# Altium integrated library Motorola Microprocessor 8-Bit.IntLib: 126 symbols (part 3 of 3)
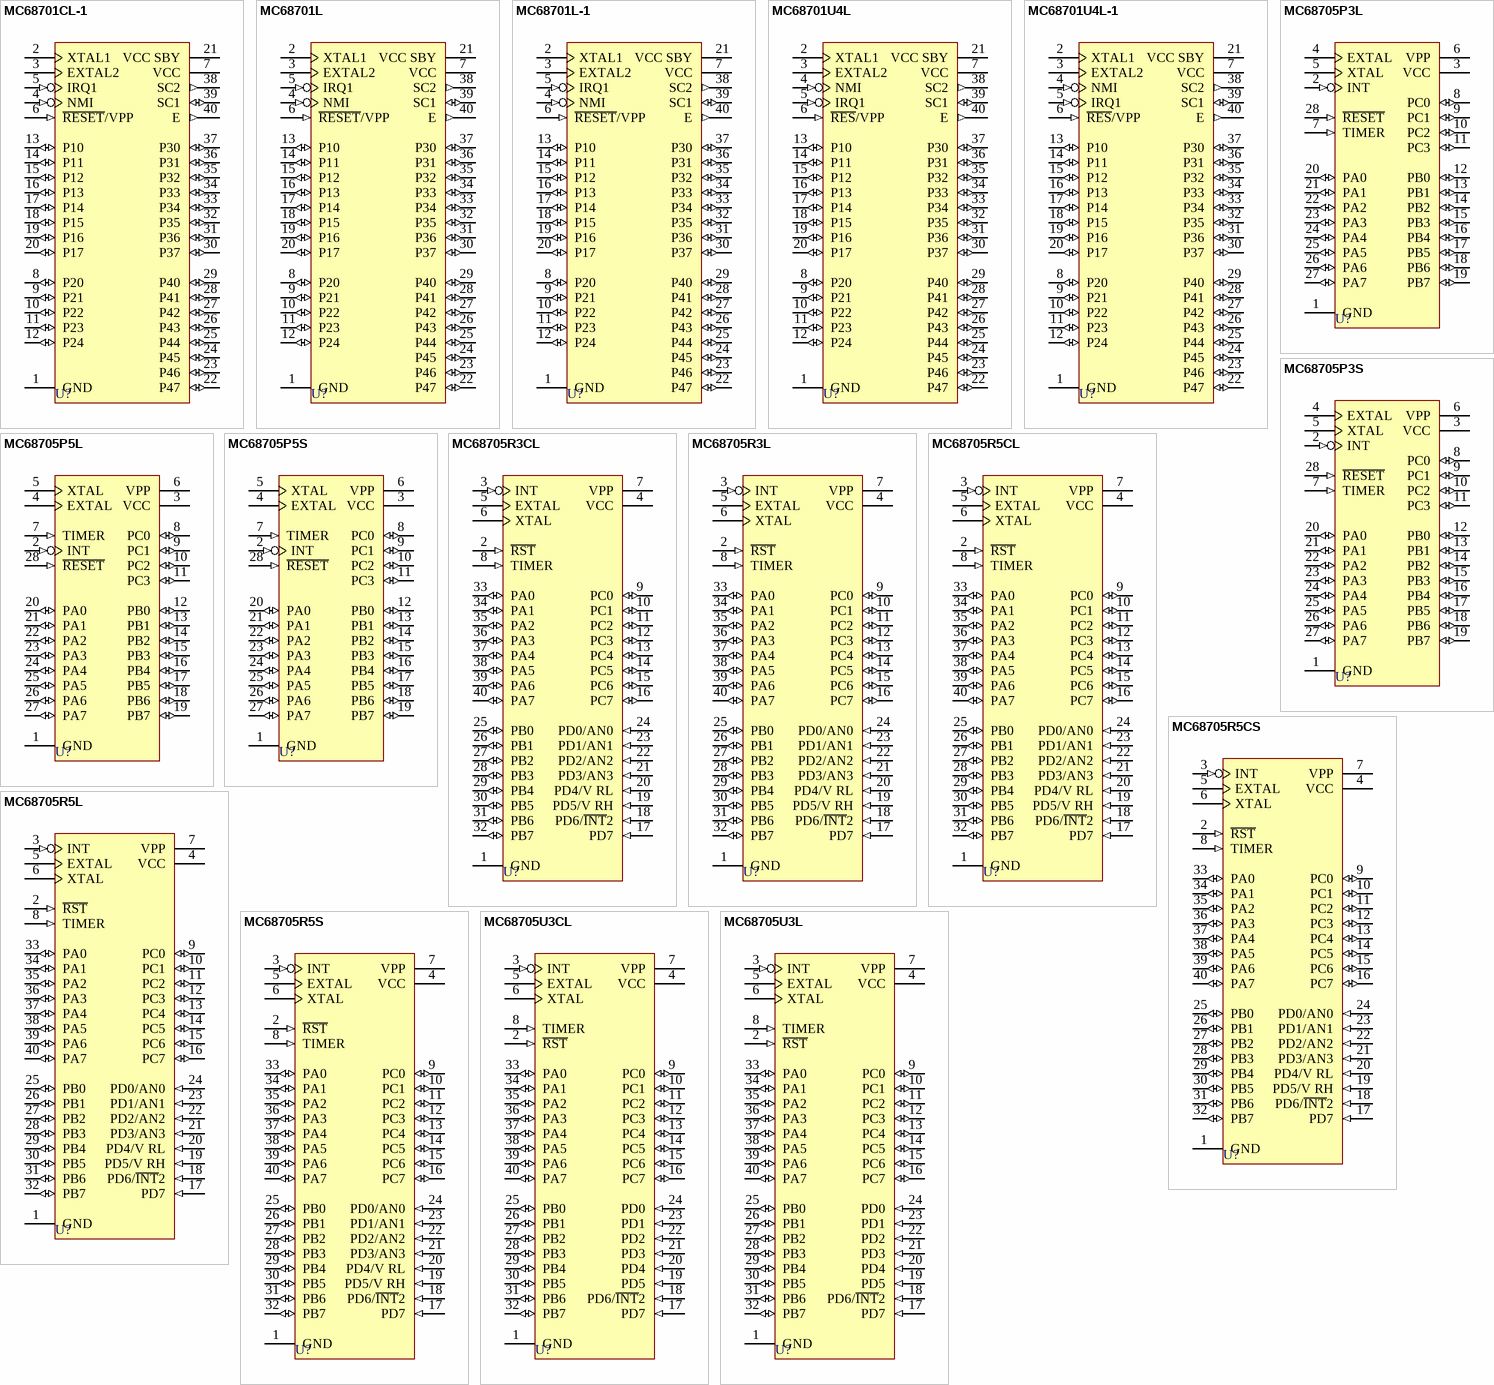
[diagram p8: symbols MC68701CL-1 to MC68705U3L]

## MC68705R5CL
designator U?
8-Bit EPROM Microcomputer; Published: 17-Jul-2002; LatestRevisionDate: 06-Jun-2005; LatestRevisionNote: Stylized 3D Model Added.; DatasheetVersion: 1984; PackageReference: 715-05; Publisher: Altium Limited; PackageDescription: DIP; 40 Leads; Row Spacing 15.24 mm; Pitch 2.54 mm
footprint 715-05 (DIP; 40 Leads; Row Spacing 15.24 mm; Pitch 2.54 mm)
3D model 715-05 (DIP; 40 Leads; Row Spacing 15.24 mm; Pitch 2.54 mm)
pins: 1 GND (power), 2 ~{RST} (in), 3 INT (in), 4 VCC (power), 5 EXTAL, 6 XTAL, 7 VPP (power), 8 TIMER (in), 9 PC0 (io), 10 PC1 (io), 11 PC2 (io), 12 PC3 (io), 13 PC4 (io), 14 PC5 (io), 15 PC6 (io), 16 PC7 (io), 17 PD7 (in), 18 PD6/~{INT}2 (in), 19 PD5/V RH (in), 20 PD4/V RL (in), 21 PD3/AN3 (in), 22 PD2/AN2 (in), 23 PD1/AN1 (in), 24 PD0/AN0 (in), 25 PB0 (io), 26 PB1 (io), 27 PB2 (io), 28 PB3 (io), 29 PB4 (io), 30 PB5 (io), 31 PB6 (io), 32 PB7 (io), 33 PA0 (io), 34 PA1 (io), 35 PA2 (io), 36 PA3 (io), 37 PA4 (io), 38 PA5 (io), 39 PA6 (io), 40 PA7 (io)

## MC68705R5CS
designator U?
8-Bit EPROM Microcomputer; Published: 17-Jul-2002; LatestRevisionDate: 06-Jun-2005; LatestRevisionNote: Stylized 3D Model Added.; DatasheetVersion: 1984; PackageReference: 734-04; Publisher: Altium Limited; PackageDescription: DIP; 40 Leads; Row Spacing 15.24 mm; Pitch 2.54 mm; Code_JEDEC: MS-011-AC
footprint 734-04 (DIP; 40 Leads; Row Spacing 15.24 mm; Pitch 2.54 mm)
3D model 734-04 (DIP; 40 Leads; Row Spacing 15.24 mm; Pitch 2.54 mm)
pins: 1 GND (power), 2 ~{RST} (in), 3 INT (in), 4 VCC (power), 5 EXTAL, 6 XTAL, 7 VPP (power), 8 TIMER (in), 9 PC0 (io), 10 PC1 (io), 11 PC2 (io), 12 PC3 (io), 13 PC4 (io), 14 PC5 (io), 15 PC6 (io), 16 PC7 (io), 17 PD7 (in), 18 PD6/~{INT}2 (in), 19 PD5/V RH (in), 20 PD4/V RL (in), 21 PD3/AN3 (in), 22 PD2/AN2 (in), 23 PD1/AN1 (in), 24 PD0/AN0 (in), 25 PB0 (io), 26 PB1 (io), 27 PB2 (io), 28 PB3 (io), 29 PB4 (io), 30 PB5 (io), 31 PB6 (io), 32 PB7 (io), 33 PA0 (io), 34 PA1 (io), 35 PA2 (io), 36 PA3 (io), 37 PA4 (io), 38 PA5 (io), 39 PA6 (io), 40 PA7 (io)

## MC68705R5L
designator U?
8-Bit EPROM Microcomputer; Published: 17-Jul-2002; LatestRevisionDate: 06-Jun-2005; LatestRevisionNote: Stylized 3D Model Added.; DatasheetVersion: 1984; PackageReference: 715-05; Publisher: Altium Limited; PackageDescription: DIP; 40 Leads; Row Spacing 15.24 mm; Pitch 2.54 mm
footprint 715-05 (DIP; 40 Leads; Row Spacing 15.24 mm; Pitch 2.54 mm)
3D model 715-05 (DIP; 40 Leads; Row Spacing 15.24 mm; Pitch 2.54 mm)
pins: 1 GND (power), 2 ~{RST} (in), 3 INT (in), 4 VCC (power), 5 EXTAL, 6 XTAL, 7 VPP (power), 8 TIMER (in), 9 PC0 (io), 10 PC1 (io), 11 PC2 (io), 12 PC3 (io), 13 PC4 (io), 14 PC5 (io), 15 PC6 (io), 16 PC7 (io), 17 PD7 (in), 18 PD6/~{INT}2 (in), 19 PD5/V RH (in), 20 PD4/V RL (in), 21 PD3/AN3 (in), 22 PD2/AN2 (in), 23 PD1/AN1 (in), 24 PD0/AN0 (in), 25 PB0 (io), 26 PB1 (io), 27 PB2 (io), 28 PB3 (io), 29 PB4 (io), 30 PB5 (io), 31 PB6 (io), 32 PB7 (io), 33 PA0 (io), 34 PA1 (io), 35 PA2 (io), 36 PA3 (io), 37 PA4 (io), 38 PA5 (io), 39 PA6 (io), 40 PA7 (io)

## MC68705R5S
designator U?
8-Bit EPROM Microcomputer; Published: 17-Jul-2002; LatestRevisionDate: 06-Jun-2005; LatestRevisionNote: Stylized 3D Model Added.; DatasheetVersion: 1984; PackageReference: 734-04; Publisher: Altium Limited; PackageDescription: DIP; 40 Leads; Row Spacing 15.24 mm; Pitch 2.54 mm; Code_JEDEC: MS-011-AC
footprint 734-04 (DIP; 40 Leads; Row Spacing 15.24 mm; Pitch 2.54 mm)
3D model 734-04 (DIP; 40 Leads; Row Spacing 15.24 mm; Pitch 2.54 mm)
pins: 1 GND (power), 2 ~{RST} (in), 3 INT (in), 4 VCC (power), 5 EXTAL, 6 XTAL, 7 VPP (power), 8 TIMER (in), 9 PC0 (io), 10 PC1 (io), 11 PC2 (io), 12 PC3 (io), 13 PC4 (io), 14 PC5 (io), 15 PC6 (io), 16 PC7 (io), 17 PD7 (in), 18 PD6/~{INT}2 (in), 19 PD5/V RH (in), 20 PD4/V RL (in), 21 PD3/AN3 (in), 22 PD2/AN2 (in), 23 PD1/AN1 (in), 24 PD0/AN0 (in), 25 PB0 (io), 26 PB1 (io), 27 PB2 (io), 28 PB3 (io), 29 PB4 (io), 30 PB5 (io), 31 PB6 (io), 32 PB7 (io), 33 PA0 (io), 34 PA1 (io), 35 PA2 (io), 36 PA3 (io), 37 PA4 (io), 38 PA5 (io), 39 PA6 (io), 40 PA7 (io)

## MC68705U3CL
designator U?
8-Bit EPROM Microcomputer; Published: 17-Jul-2002; LatestRevisionDate: 06-Jun-2005; LatestRevisionNote: Stylized 3D Model Added.; DatasheetVersion: 1984; PackageReference: 715-05; Publisher: Altium Limited; PackageDescription: DIP; 40 Leads; Row Spacing 15.24 mm; Pitch 2.54 mm
footprint 715-05 (DIP; 40 Leads; Row Spacing 15.24 mm; Pitch 2.54 mm)
3D model 715-05 (DIP; 40 Leads; Row Spacing 15.24 mm; Pitch 2.54 mm)
pins: 1 GND (power), 2 ~{RST} (in), 3 INT (in), 4 VCC (power), 5 EXTAL, 6 XTAL, 7 VPP, 8 TIMER (in), 9 PC0 (io), 10 PC1 (io), 11 PC2 (io), 12 PC3 (io), 13 PC4 (io), 14 PC5 (io), 15 PC6 (io), 16 PC7 (io), 17 PD7 (in), 18 PD6/~{INT}2 (in), 19 PD5 (in), 20 PD4 (in), 21 PD3 (in), 22 PD2 (in), 23 PD1 (in), 24 PD0 (in), 25 PB0 (io), 26 PB1 (io), 27 PB2 (io), 28 PB3 (io), 29 PB4 (io), 30 PB5 (io), 31 PB6 (io), 32 PB7 (io), 33 PA0 (io), 34 PA1 (io), 35 PA2 (io), 36 PA3 (io), 37 PA4 (io), 38 PA5 (io), 39 PA6 (io), 40 PA7 (io)

## MC68705U3L
designator U?
8-Bit EPROM Microcomputer; Published: 17-Jul-2002; LatestRevisionDate: 06-Jun-2005; LatestRevisionNote: Stylized 3D Model Added.; DatasheetVersion: 1984; PackageReference: 715-05; Publisher: Altium Limited; PackageDescription: DIP; 40 Leads; Row Spacing 15.24 mm; Pitch 2.54 mm
footprint 715-05 (DIP; 40 Leads; Row Spacing 15.24 mm; Pitch 2.54 mm)
3D model 715-05 (DIP; 40 Leads; Row Spacing 15.24 mm; Pitch 2.54 mm)
pins: 1 GND (power), 2 ~{RST} (in), 3 INT (in), 4 VCC (power), 5 EXTAL, 6 XTAL, 7 VPP, 8 TIMER (in), 9 PC0 (io), 10 PC1 (io), 11 PC2 (io), 12 PC3 (io), 13 PC4 (io), 14 PC5 (io), 15 PC6 (io), 16 PC7 (io), 17 PD7 (in), 18 PD6/~{INT}2 (in), 19 PD5 (in), 20 PD4 (in), 21 PD3 (in), 22 PD2 (in), 23 PD1 (in), 24 PD0 (in), 25 PB0 (io), 26 PB1 (io), 27 PB2 (io), 28 PB3 (io), 29 PB4 (io), 30 PB5 (io), 31 PB6 (io), 32 PB7 (io), 33 PA0 (io), 34 PA1 (io), 35 PA2 (io), 36 PA3 (io), 37 PA4 (io), 38 PA5 (io), 39 PA6 (io), 40 PA7 (io)

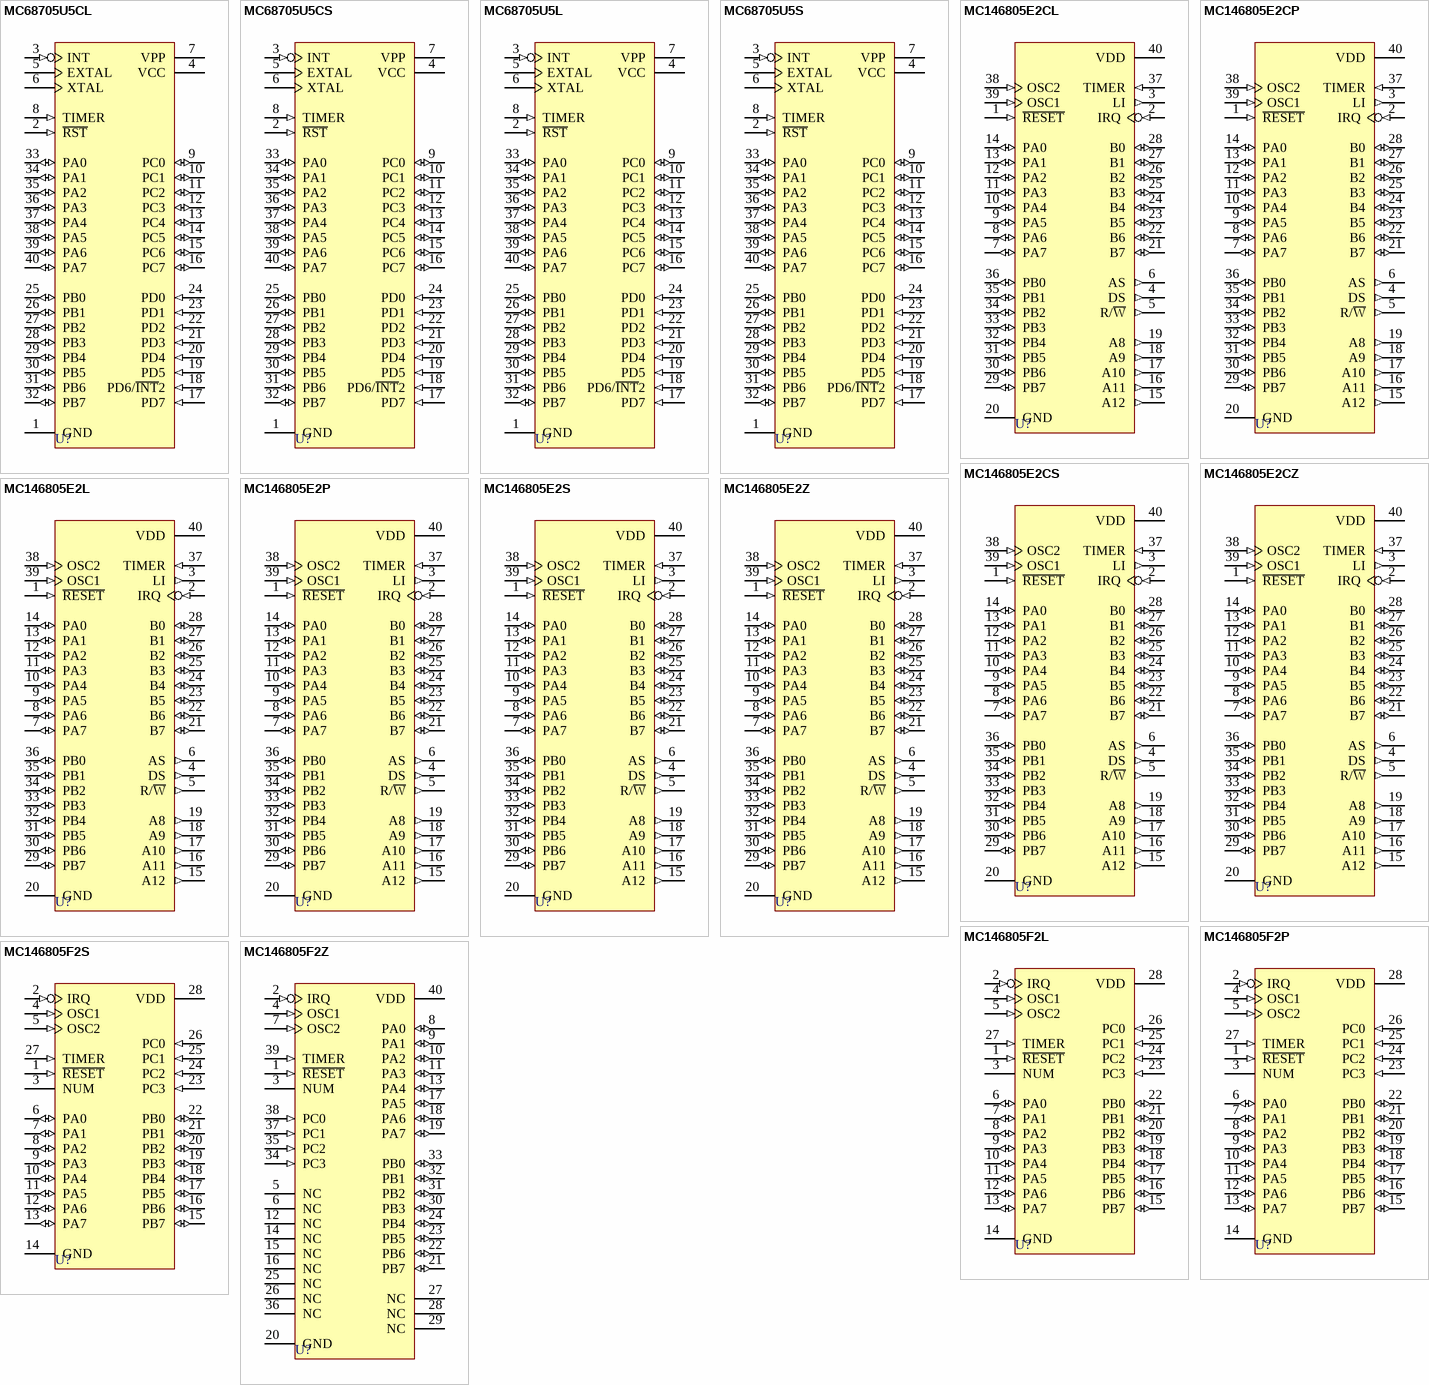
[diagram p6: symbols MC68705U5CL to MC146805F2Z]

## MC68705U5CL
designator U?
8-Bit EPROM Microcomputer; Published: 17-Jul-2002; LatestRevisionDate: 06-Jun-2005; LatestRevisionNote: Stylized 3D Model Added.; DatasheetVersion: 1984; PackageReference: 715-05; Publisher: Altium Limited; PackageDescription: DIP; 40 Leads; Row Spacing 15.24 mm; Pitch 2.54 mm
footprint 715-05 (DIP; 40 Leads; Row Spacing 15.24 mm; Pitch 2.54 mm)
3D model 715-05 (DIP; 40 Leads; Row Spacing 15.24 mm; Pitch 2.54 mm)
pins: 1 GND (power), 2 ~{RST} (in), 3 INT (in), 4 VCC (power), 5 EXTAL, 6 XTAL, 7 VPP, 8 TIMER (in), 9 PC0 (io), 10 PC1 (io), 11 PC2 (io), 12 PC3 (io), 13 PC4 (io), 14 PC5 (io), 15 PC6 (io), 16 PC7 (io), 17 PD7 (in), 18 PD6/~{INT}2 (in), 19 PD5 (in), 20 PD4 (in), 21 PD3 (in), 22 PD2 (in), 23 PD1 (in), 24 PD0 (in), 25 PB0 (io), 26 PB1 (io), 27 PB2 (io), 28 PB3 (io), 29 PB4 (io), 30 PB5 (io), 31 PB6 (io), 32 PB7 (io), 33 PA0 (io), 34 PA1 (io), 35 PA2 (io), 36 PA3 (io), 37 PA4 (io), 38 PA5 (io), 39 PA6 (io), 40 PA7 (io)

## MC68705U5CS
designator U?
8-Bit EPROM Microcomputer; Published: 17-Jul-2002; LatestRevisionDate: 06-Jun-2005; LatestRevisionNote: Stylized 3D Model Added.; DatasheetVersion: 1984; PackageReference: 734-04; Publisher: Altium Limited; PackageDescription: DIP; 40 Leads; Row Spacing 15.24 mm; Pitch 2.54 mm; Code_JEDEC: MS-011-AC
footprint 734-04 (DIP; 40 Leads; Row Spacing 15.24 mm; Pitch 2.54 mm)
3D model 734-04 (DIP; 40 Leads; Row Spacing 15.24 mm; Pitch 2.54 mm)
pins: 1 GND (power), 2 ~{RST} (in), 3 INT (in), 4 VCC (power), 5 EXTAL, 6 XTAL, 7 VPP, 8 TIMER (in), 9 PC0 (io), 10 PC1 (io), 11 PC2 (io), 12 PC3 (io), 13 PC4 (io), 14 PC5 (io), 15 PC6 (io), 16 PC7 (io), 17 PD7 (in), 18 PD6/~{INT}2 (in), 19 PD5 (in), 20 PD4 (in), 21 PD3 (in), 22 PD2 (in), 23 PD1 (in), 24 PD0 (in), 25 PB0 (io), 26 PB1 (io), 27 PB2 (io), 28 PB3 (io), 29 PB4 (io), 30 PB5 (io), 31 PB6 (io), 32 PB7 (io), 33 PA0 (io), 34 PA1 (io), 35 PA2 (io), 36 PA3 (io), 37 PA4 (io), 38 PA5 (io), 39 PA6 (io), 40 PA7 (io)

## MC68705U5L
designator U?
8-Bit EPROM Microcomputer; Published: 17-Jul-2002; LatestRevisionDate: 06-Jun-2005; LatestRevisionNote: Stylized 3D Model Added.; DatasheetVersion: 1984; PackageReference: 715-05; Publisher: Altium Limited; PackageDescription: DIP; 40 Leads; Row Spacing 15.24 mm; Pitch 2.54 mm
footprint 715-05 (DIP; 40 Leads; Row Spacing 15.24 mm; Pitch 2.54 mm)
3D model 715-05 (DIP; 40 Leads; Row Spacing 15.24 mm; Pitch 2.54 mm)
pins: 1 GND (power), 2 ~{RST} (in), 3 INT (in), 4 VCC (power), 5 EXTAL, 6 XTAL, 7 VPP, 8 TIMER (in), 9 PC0 (io), 10 PC1 (io), 11 PC2 (io), 12 PC3 (io), 13 PC4 (io), 14 PC5 (io), 15 PC6 (io), 16 PC7 (io), 17 PD7 (in), 18 PD6/~{INT}2 (in), 19 PD5 (in), 20 PD4 (in), 21 PD3 (in), 22 PD2 (in), 23 PD1 (in), 24 PD0 (in), 25 PB0 (io), 26 PB1 (io), 27 PB2 (io), 28 PB3 (io), 29 PB4 (io), 30 PB5 (io), 31 PB6 (io), 32 PB7 (io), 33 PA0 (io), 34 PA1 (io), 35 PA2 (io), 36 PA3 (io), 37 PA4 (io), 38 PA5 (io), 39 PA6 (io), 40 PA7 (io)

## MC68705U5S
designator U?
8-Bit EPROM Microcomputer; Published: 17-Jul-2002; LatestRevisionDate: 06-Jun-2005; LatestRevisionNote: Stylized 3D Model Added.; DatasheetVersion: 1984; PackageReference: 734-04; Publisher: Altium Limited; PackageDescription: DIP; 40 Leads; Row Spacing 15.24 mm; Pitch 2.54 mm; Code_JEDEC: MS-011-AC
footprint 734-04 (DIP; 40 Leads; Row Spacing 15.24 mm; Pitch 2.54 mm)
3D model 734-04 (DIP; 40 Leads; Row Spacing 15.24 mm; Pitch 2.54 mm)
pins: 1 GND (power), 2 ~{RST} (in), 3 INT (in), 4 VCC (power), 5 EXTAL, 6 XTAL, 7 VPP, 8 TIMER (in), 9 PC0 (io), 10 PC1 (io), 11 PC2 (io), 12 PC3 (io), 13 PC4 (io), 14 PC5 (io), 15 PC6 (io), 16 PC7 (io), 17 PD7 (in), 18 PD6/~{INT}2 (in), 19 PD5 (in), 20 PD4 (in), 21 PD3 (in), 22 PD2 (in), 23 PD1 (in), 24 PD0 (in), 25 PB0 (io), 26 PB1 (io), 27 PB2 (io), 28 PB3 (io), 29 PB4 (io), 30 PB5 (io), 31 PB6 (io), 32 PB7 (io), 33 PA0 (io), 34 PA1 (io), 35 PA2 (io), 36 PA3 (io), 37 PA4 (io), 38 PA5 (io), 39 PA6 (io), 40 PA7 (io)

## MC146805E2CL
designator U?
8-Bit Microprocessor; Published: 17-Jul-2002; LatestRevisionDate: 06-Jun-2005; LatestRevisionNote: Stylized 3D Model Added.; DatasheetVersion: 1984; PackageReference: 715-05; Publisher: Altium Limited; PackageDescription: DIP; 40 Leads; Row Spacing 15.24 mm; Pitch 2.54 mm
footprint 715-05 (DIP; 40 Leads; Row Spacing 15.24 mm; Pitch 2.54 mm)
3D model 715-05 (DIP; 40 Leads; Row Spacing 15.24 mm; Pitch 2.54 mm)
pins: 1 ~{RESET} (in), 2 IRQ (in), 3 LI (out), 4 DS (out), 5 R/~{W} (out), 6 AS (out), 7 PA7 (io), 8 PA6 (io), 9 PA5 (io), 10 PA4 (io), 11 PA3 (io), 12 PA2 (io), 13 PA1 (io), 14 PA0 (io), 15 A12 (out), 16 A11 (out), 17 A10 (out), 18 A9 (out), 19 A8 (out), 20 GND (power), 21 B7 (io), 22 B6 (io), 23 B5 (io), 24 B4 (io), 25 B3 (io), 26 B2 (io), 27 B1 (io), 28 B0 (io), 29 PB7 (io), 30 PB6 (io), 31 PB5 (io), 32 PB4 (io), 33 PB3 (io), 34 PB2 (io), 35 PB1 (io), 36 PB0 (io), 37 TIMER (in), 38 OSC2 (in), 39 OSC1 (in), 40 VDD (power)

## MC146805E2CP
designator U?
8-Bit Microprocessor; Published: 17-Jul-2002; LatestRevisionDate: 06-Jun-2005; LatestRevisionNote: Stylized 3D Model Added.; DatasheetVersion: 1984; PackageReference: 711-03; Publisher: Altium Limited; PackageDescription: DIP; 40 Leads; Row Spacing 15.24 mm; Pitch 2.54 mm
footprint 711-03 (DIP; 40 Leads; Row Spacing 15.24 mm; Pitch 2.54 mm)
3D model 711-03 (DIP; 40 Leads; Row Spacing 15.24 mm; Pitch 2.54 mm)
pins: 1 ~{RESET} (in), 2 IRQ (in), 3 LI (out), 4 DS (out), 5 R/~{W} (out), 6 AS (out), 7 PA7 (io), 8 PA6 (io), 9 PA5 (io), 10 PA4 (io), 11 PA3 (io), 12 PA2 (io), 13 PA1 (io), 14 PA0 (io), 15 A12 (out), 16 A11 (out), 17 A10 (out), 18 A9 (out), 19 A8 (out), 20 GND (power), 21 B7 (io), 22 B6 (io), 23 B5 (io), 24 B4 (io), 25 B3 (io), 26 B2 (io), 27 B1 (io), 28 B0 (io), 29 PB7 (io), 30 PB6 (io), 31 PB5 (io), 32 PB4 (io), 33 PB3 (io), 34 PB2 (io), 35 PB1 (io), 36 PB0 (io), 37 TIMER (in), 38 OSC2 (in), 39 OSC1 (in), 40 VDD (power)

## MC146805E2CS
designator U?
8-Bit Microprocessor; Published: 17-Jul-2002; LatestRevisionDate: 06-Jun-2005; LatestRevisionNote: Stylized 3D Model Added.; DatasheetVersion: 1984; PackageReference: 734-04; Publisher: Altium Limited; PackageDescription: DIP; 40 Leads; Row Spacing 15.24 mm; Pitch 2.54 mm; Code_JEDEC: MS-011-AC
footprint 734-04 (DIP; 40 Leads; Row Spacing 15.24 mm; Pitch 2.54 mm)
3D model 734-04 (DIP; 40 Leads; Row Spacing 15.24 mm; Pitch 2.54 mm)
pins: 1 ~{RESET} (in), 2 IRQ (in), 3 LI (out), 4 DS (out), 5 R/~{W} (out), 6 AS (out), 7 PA7 (io), 8 PA6 (io), 9 PA5 (io), 10 PA4 (io), 11 PA3 (io), 12 PA2 (io), 13 PA1 (io), 14 PA0 (io), 15 A12 (out), 16 A11 (out), 17 A10 (out), 18 A9 (out), 19 A8 (out), 20 GND (power), 21 B7 (io), 22 B6 (io), 23 B5 (io), 24 B4 (io), 25 B3 (io), 26 B2 (io), 27 B1 (io), 28 B0 (io), 29 PB7 (io), 30 PB6 (io), 31 PB5 (io), 32 PB4 (io), 33 PB3 (io), 34 PB2 (io), 35 PB1 (io), 36 PB0 (io), 37 TIMER (in), 38 OSC2 (in), 39 OSC1 (in), 40 VDD (power)

## MC146805E2CZ
designator U?
8-Bit Microprocessor; Published: 17-Jul-2002; DatasheetVersion: 1984; PackageReference: 761-01; Publisher: Altium Limited; PackageDescription: Leadless Chip Carrier; 40 Terminals; Body 12.3 x 12.3 mm; Pitch 1.016 mm
footprint 761-01 (Leadless Chip Carrier; 40 Terminals; Body 12.3 x 12.3 mm; Pitch 1.016 mm)
pins: 1 ~{RESET} (in), 2 IRQ (in), 3 LI (out), 4 DS (out), 5 R/~{W} (out), 6 AS (out), 7 PA7 (io), 8 PA6 (io), 9 PA5 (io), 10 PA4 (io), 11 PA3 (io), 12 PA2 (io), 13 PA1 (io), 14 PA0 (io), 15 A12 (out), 16 A11 (out), 17 A10 (out), 18 A9 (out), 19 A8 (out), 20 GND (power), 21 B7 (io), 22 B6 (io), 23 B5 (io), 24 B4 (io), 25 B3 (io), 26 B2 (io), 27 B1 (io), 28 B0 (io), 29 PB7 (io), 30 PB6 (io), 31 PB5 (io), 32 PB4 (io), 33 PB3 (io), 34 PB2 (io), 35 PB1 (io), 36 PB0 (io), 37 TIMER (in), 38 OSC2 (in), 39 OSC1 (in), 40 VDD (power)

## MC146805E2L
designator U?
8-Bit Microprocessor; Published: 17-Jul-2002; LatestRevisionDate: 06-Jun-2005; LatestRevisionNote: Stylized 3D Model Added.; DatasheetVersion: 1984; PackageReference: 715-05; Publisher: Altium Limited; PackageDescription: DIP; 40 Leads; Row Spacing 15.24 mm; Pitch 2.54 mm
footprint 715-05 (DIP; 40 Leads; Row Spacing 15.24 mm; Pitch 2.54 mm)
3D model 715-05 (DIP; 40 Leads; Row Spacing 15.24 mm; Pitch 2.54 mm)
pins: 1 ~{RESET} (in), 2 IRQ (in), 3 LI (out), 4 DS (out), 5 R/~{W} (out), 6 AS (out), 7 PA7 (io), 8 PA6 (io), 9 PA5 (io), 10 PA4 (io), 11 PA3 (io), 12 PA2 (io), 13 PA1 (io), 14 PA0 (io), 15 A12 (out), 16 A11 (out), 17 A10 (out), 18 A9 (out), 19 A8 (out), 20 GND (power), 21 B7 (io), 22 B6 (io), 23 B5 (io), 24 B4 (io), 25 B3 (io), 26 B2 (io), 27 B1 (io), 28 B0 (io), 29 PB7 (io), 30 PB6 (io), 31 PB5 (io), 32 PB4 (io), 33 PB3 (io), 34 PB2 (io), 35 PB1 (io), 36 PB0 (io), 37 TIMER (in), 38 OSC2 (in), 39 OSC1 (in), 40 VDD (power)

## MC146805E2P
designator U?
8-Bit Microprocessor; Published: 17-Jul-2002; LatestRevisionDate: 06-Jun-2005; LatestRevisionNote: Stylized 3D Model Added.; DatasheetVersion: 1984; PackageReference: 711-03; Publisher: Altium Limited; PackageDescription: DIP; 40 Leads; Row Spacing 15.24 mm; Pitch 2.54 mm
footprint 711-03 (DIP; 40 Leads; Row Spacing 15.24 mm; Pitch 2.54 mm)
3D model 711-03 (DIP; 40 Leads; Row Spacing 15.24 mm; Pitch 2.54 mm)
pins: 1 ~{RESET} (in), 2 IRQ (in), 3 LI (out), 4 DS (out), 5 R/~{W} (out), 6 AS (out), 7 PA7 (io), 8 PA6 (io), 9 PA5 (io), 10 PA4 (io), 11 PA3 (io), 12 PA2 (io), 13 PA1 (io), 14 PA0 (io), 15 A12 (out), 16 A11 (out), 17 A10 (out), 18 A9 (out), 19 A8 (out), 20 GND (power), 21 B7 (io), 22 B6 (io), 23 B5 (io), 24 B4 (io), 25 B3 (io), 26 B2 (io), 27 B1 (io), 28 B0 (io), 29 PB7 (io), 30 PB6 (io), 31 PB5 (io), 32 PB4 (io), 33 PB3 (io), 34 PB2 (io), 35 PB1 (io), 36 PB0 (io), 37 TIMER (in), 38 OSC2 (in), 39 OSC1 (in), 40 VDD (power)

## MC146805E2S
designator U?
8-Bit Microprocessor; Published: 17-Jul-2002; LatestRevisionDate: 06-Jun-2005; LatestRevisionNote: Stylized 3D Model Added.; DatasheetVersion: 1984; PackageReference: 734-04; Publisher: Altium Limited; PackageDescription: DIP; 40 Leads; Row Spacing 15.24 mm; Pitch 2.54 mm; Code_JEDEC: MS-011-AC
footprint 734-04 (DIP; 40 Leads; Row Spacing 15.24 mm; Pitch 2.54 mm)
3D model 734-04 (DIP; 40 Leads; Row Spacing 15.24 mm; Pitch 2.54 mm)
pins: 1 ~{RESET} (in), 2 IRQ (in), 3 LI (out), 4 DS (out), 5 R/~{W} (out), 6 AS (out), 7 PA7 (io), 8 PA6 (io), 9 PA5 (io), 10 PA4 (io), 11 PA3 (io), 12 PA2 (io), 13 PA1 (io), 14 PA0 (io), 15 A12 (out), 16 A11 (out), 17 A10 (out), 18 A9 (out), 19 A8 (out), 20 GND (power), 21 B7 (io), 22 B6 (io), 23 B5 (io), 24 B4 (io), 25 B3 (io), 26 B2 (io), 27 B1 (io), 28 B0 (io), 29 PB7 (io), 30 PB6 (io), 31 PB5 (io), 32 PB4 (io), 33 PB3 (io), 34 PB2 (io), 35 PB1 (io), 36 PB0 (io), 37 TIMER (in), 38 OSC2 (in), 39 OSC1 (in), 40 VDD (power)

## MC146805E2Z
designator U?
8-Bit Microprocessor; Published: 17-Jul-2002; DatasheetVersion: 1984; PackageReference: 761-01; Publisher: Altium Limited; PackageDescription: Leadless Chip Carrier; 40 Terminals; Body 12.3 x 12.3 mm; Pitch 1.016 mm
footprint 761-01 (Leadless Chip Carrier; 40 Terminals; Body 12.3 x 12.3 mm; Pitch 1.016 mm)
pins: 1 ~{RESET} (in), 2 IRQ (in), 3 LI (out), 4 DS (out), 5 R/~{W} (out), 6 AS (out), 7 PA7 (io), 8 PA6 (io), 9 PA5 (io), 10 PA4 (io), 11 PA3 (io), 12 PA2 (io), 13 PA1 (io), 14 PA0 (io), 15 A12 (out), 16 A11 (out), 17 A10 (out), 18 A9 (out), 19 A8 (out), 20 GND (power), 21 B7 (io), 22 B6 (io), 23 B5 (io), 24 B4 (io), 25 B3 (io), 26 B2 (io), 27 B1 (io), 28 B0 (io), 29 PB7 (io), 30 PB6 (io), 31 PB5 (io), 32 PB4 (io), 33 PB3 (io), 34 PB2 (io), 35 PB1 (io), 36 PB0 (io), 37 TIMER (in), 38 OSC2 (in), 39 OSC1 (in), 40 VDD (power)

## MC146805F2L
designator U?
8-Bit Microprocessor; Published: 17-Jul-2002; LatestRevisionDate: 06-Jun-2005; LatestRevisionNote: Stylized 3D Model Added.; DatasheetVersion: 1984; PackageReference: 719-03; Publisher: Altium Limited; PackageDescription: DIP; 28 Leads; Row Spacing 15.24 mm; Pitch 2.54 mm
footprint 719-03 (DIP; 28 Leads; Row Spacing 15.24 mm; Pitch 2.54 mm)
3D model 719-03 (DIP; 28 Leads; Row Spacing 15.24 mm; Pitch 2.54 mm)
pins: 1 ~{RESET} (in), 2 IRQ (in), 3 NUM, 4 OSC1 (in), 5 OSC2 (in), 6 PA0 (io), 7 PA1 (io), 8 PA2 (io), 9 PA3 (io), 10 PA4 (io), 11 PA5 (io), 12 PA6 (io), 13 PA7 (io), 14 GND (power), 15 PB7 (io), 16 PB6 (io), 17 PB5 (io), 18 PB4 (io), 19 PB3 (io), 20 PB2 (io), 21 PB1 (io), 22 PB0 (io), 23 PC3 (in), 24 PC2 (in), 25 PC1 (in), 26 PC0 (in), 27 TIMER (in), 28 VDD (power)

## MC146805F2P
designator U?
8-Bit Microprocessor; Published: 17-Jul-2002; LatestRevisionDate: 06-Jun-2005; LatestRevisionNote: Stylized 3D Model Added.; DatasheetVersion: 1984; PackageReference: 710-02; Publisher: Altium Limited; PackageDescription: DIP; 28 Leads; Row Spacing 15.24 mm; Pitch 2.54 mm
footprint 710-02 (DIP; 28 Leads; Row Spacing 15.24 mm; Pitch 2.54 mm)
3D model 710-02 (DIP; 28 Leads; Row Spacing 15.24 mm; Pitch 2.54 mm)
pins: 1 ~{RESET} (in), 2 IRQ (in), 3 NUM, 4 OSC1 (in), 5 OSC2 (in), 6 PA0 (io), 7 PA1 (io), 8 PA2 (io), 9 PA3 (io), 10 PA4 (io), 11 PA5 (io), 12 PA6 (io), 13 PA7 (io), 14 GND (power), 15 PB7 (io), 16 PB6 (io), 17 PB5 (io), 18 PB4 (io), 19 PB3 (io), 20 PB2 (io), 21 PB1 (io), 22 PB0 (io), 23 PC3 (in), 24 PC2 (in), 25 PC1 (in), 26 PC0 (in), 27 TIMER (in), 28 VDD (power)

## MC146805F2S
designator U?
8-Bit Microprocessor; Published: 17-Jul-2002; LatestRevisionDate: 06-Jun-2005; LatestRevisionNote: Stylized 3D Model Added.; DatasheetVersion: 1984; PackageReference: 733-03; Publisher: Altium Limited; PackageDescription: DIP; 28 Leads; Row Spacing 15.24 mm; Pitch 2.54 mm
footprint 733-03 (DIP; 28 Leads; Row Spacing 15.24 mm; Pitch 2.54 mm)
3D model 710-02 (DIP; 28 Leads; Row Spacing 15.24 mm; Pitch 2.54 mm)
pins: 1 ~{RESET} (in), 2 IRQ (in), 3 NUM, 4 OSC1 (in), 5 OSC2 (in), 6 PA0 (io), 7 PA1 (io), 8 PA2 (io), 9 PA3 (io), 10 PA4 (io), 11 PA5 (io), 12 PA6 (io), 13 PA7 (io), 14 GND (power), 15 PB7 (io), 16 PB6 (io), 17 PB5 (io), 18 PB4 (io), 19 PB3 (io), 20 PB2 (io), 21 PB1 (io), 22 PB0 (io), 23 PC3 (in), 24 PC2 (in), 25 PC1 (in), 26 PC0 (in), 27 TIMER (in), 28 VDD (power)

## MC146805F2Z
designator U?
8-Bit Microprocessor; Published: 17-Jul-2002; DatasheetVersion: 1984; PackageReference: 761-01; Publisher: Altium Limited; PackageDescription: Leadless Chip Carrier; 40 Terminals; Body 12.3 x 12.3 mm; Pitch 1.016 mm
footprint 761-01 (Leadless Chip Carrier; 40 Terminals; Body 12.3 x 12.3 mm; Pitch 1.016 mm)
pins: 1 ~{RESET} (in), 2 IRQ (in), 3 NUM, 4 OSC1 (in), 5 NC, 6 NC, 7 OSC2 (in), 8 PA0 (io), 9 PA1 (io), 10 PA2 (io), 11 PA3 (io), 12 NC, 13 PA4 (io), 14 NC, 15 NC, 16 NC, 17 PA5 (io), 18 PA6 (io), 19 PA7 (io), 20 GND (power), 21 PB7 (io), 22 PB6 (io), 23 PB5 (io), 24 PB4 (io), 25 NC, 26 NC, 27 NC, 28 NC, 29 NC, 30 PB3 (io), 31 PB2 (io), 32 PB1 (io), 33 PB0 (io), 34 PC3 (in), 35 PC2 (in), 36 NC, 37 PC1 (in), 38 PC0 (in), 39 TIMER (in), 40 VDD (power)